# EAGLE library part DS1626 (library IC)
*Dallas DS1626/DS1726 High Precision 3-Wire Digital Thermometer and Thermostat
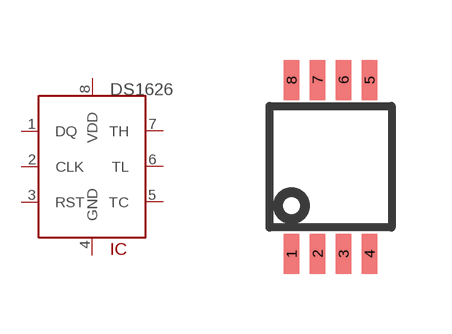
[diagram p104: symbol with the pads of MSOP-8; footprint MSOP-8]

Designator prefix IC

## DS1626  [MSOP-8]
1  DQ
2  CLK
3  RST
4  GND  pwr
5  TC
6  TL
7  TH
8  VDD  pwr

## Footprint MSOP-8 (pad centres in mm)
Linear Tech MSOP-8, National Semiconductor MM, On-Semi Micro8 (DM)
smd 0.38 x 1: 1 -0.975,-2.175; 2 -0.325,-2.175; 3 0.325,-2.175; 4 0.975,-2.175; 5 0.975,2.175; 6 0.325,2.175; 7 -0.325,2.175; 8 -0.975,2.175